# Altium schematic symbol library QUTMS_STM32Library.SchLib: 3 symbols
Pins are listed as number, name and electrical type; pins without a type are passive.

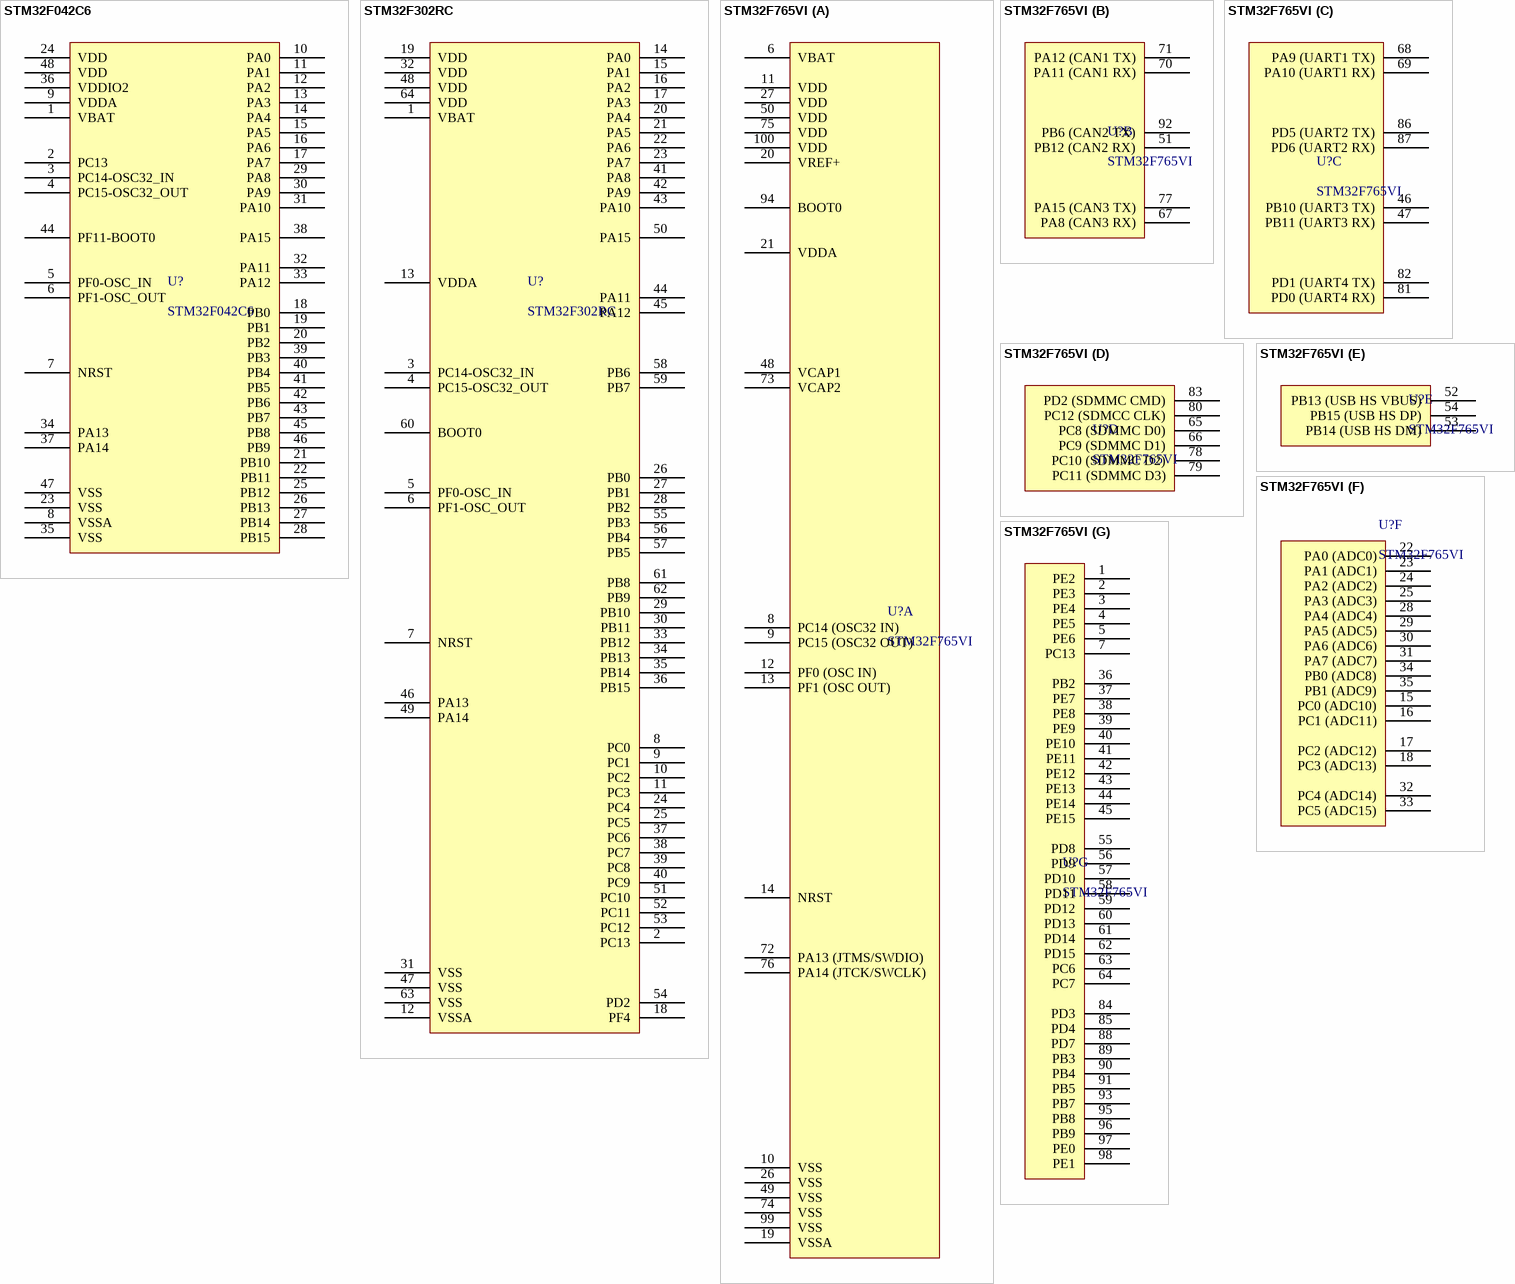
[diagram p0: symbols STM32F042C6 to STM32F765VI]

## STM32F042C6
designator U?
ARM® Cortex®-M0 STM32F0 Microcontroller IC 32-Bit 48MHz 32KB (32K x 8) FLASH 48-LQFP (7x7); ComponentLink1Description: Digikey; ComponentLink1URL: https://www.digikey.com.au/product-detail/en/stmicroelectronics/STM32F042C6T6TR/497-19319-1-ND/10063344; ComponentLink2Description: Datasheet; ComponentLink2URL: https://www.st.com/resource/en/datasheet/stm32f042k6.pdf
footprint STM32F042C6
pins: 1 VBAT, 2 PC13, 3 PC14-OSC32_IN, 4 PC15-OSC32_OUT, 5 PF0-OSC_IN, 6 PF1-OSC_OUT, 7 NRST, 8 VSSA, 9 VDDA, 10 PA0, 11 PA1, 12 PA2, 13 PA3, 14 PA4, 15 PA5, 16 PA6, 17 PA7, 18 PB0, 19 PB1, 20 PB2, 21 PB10, 22 PB11, 23 VSS, 24 VDD, 25 PB12, 26 PB13, 27 PB14, 28 PB15, 29 PA8, 30 PA9, 31 PA10, 32 PA11, 33 PA12, 34 PA13, 35 VSS, 36 VDDIO2, 37 PA14, 38 PA15, 39 PB3, 40 PB4, 41 PB5, 42 PB6, 43 PB7, 44 PF11-BOOT0, 45 PB8, 46 PB9, 47 VSS, 48 VDD

## STM32F302RC
designator U?
ARM® Cortex®-M4 STM32F3 Microcontroller IC 32-Bit 72MHz 256KB (256K x 8) FLASH 64-LQFP (10x10); ComponentLink1Description: Digikey; ComponentLink1URL: https://www.digikey.com.au/product-detail/en/stmicroelectronics/STM32F302RCT6TR/497-19000-1-ND/9974332; ComponentLink2Description: Datasheet; ComponentLink2URL: http://www.st.com/content/ccc/resource/technical/document/datasheet/67/73/21/b9/f2/b3/4d/f8/DM00094064.pdf/files/DM00094064.pdf/jcr:content/translations/en.DM00094064.pdf
footprint STM32F302RC
pins: 1 VBAT, 2 PC13, 3 PC14-OSC32_IN, 4 PC15-OSC32_OUT, 5 PF0-OSC_IN, 6 PF1-OSC_OUT, 7 NRST, 8 PC0, 9 PC1, 10 PC2, 11 PC3, 12 VSSA, 13 VDDA, 14 PA0, 15 PA1, 16 PA2, 17 PA3, 18 PF4, 19 VDD, 20 PA4, 21 PA5, 22 PA6, 23 PA7, 24 PC4, 25 PC5, 26 PB0, 27 PB1, 28 PB2, 29 PB10, 30 PB11, 31 VSS, 32 VDD, 33 PB12, 34 PB13, 35 PB14, 36 PB15, 37 PC6, 38 PC7, 39 PC8, 40 PC9, 41 PA8, 42 PA9, 43 PA10, 44 PA11, 45 PA12, 46 PA13, 47 VSS, 48 VDD, 49 PA14, 50 PA15, 51 PC10, 52 PC11, 53 PC12, 54 PD2, 55 PB3, 56 PB4, 57 PB5, 58 PB6, 59 PB7, 60 BOOT0, 61 PB8, 62 PB9, 63 VSS, 64 VDD

## STM32F765VI
designator U?
ARM® Cortex®-M7 STM32F7 Microcontroller IC 32-Bit 216MHz 2MB (2M x 8) FLASH 100-LQFP (14x14); ComponentLink1Description: Digikey; ComponentLink1URL: https://www.digikey.com/product-detail/en/stmicroelectronics/STM32F765VIT6/497-16631-ND/6137842; ComponentLink2Description: Datasheet
footprint LQFP-100
part A pins: 6 VBAT, 8 PC14 (OSC32 IN), 9 PC15 (OSC32 OUT), 10 VSS, 11 VDD, 12 PF0 (OSC IN), 13 PF1 (OSC OUT), 14 NRST, 19 VSSA, 20 VREF+, 21 VDDA, 26 VSS, 27 VDD, 48 VCAP1, 49 VSS, 50 VDD, 72 PA13 (JTMS/SWDIO), 73 VCAP2, 74 VSS, 75 VDD, 76 PA14 (JTCK/SWCLK), 94 BOOT0, 99 VSS, 100 VDD
part B pins: 51 PB12 (CAN2 RX), 67 PA8 (CAN3 RX), 70 PA11 (CAN1 RX), 71 PA12 (CAN1 TX), 77 PA15 (CAN3 TX), 92 PB6 (CAN2 TX)
part C pins: 46 PB10 (UART3 TX), 47 PB11 (UART3 RX), 68 PA9 (UART1 TX), 69 PA10 (UART1 RX), 81 PD0 (UART4 RX), 82 PD1 (UART4 TX), 86 PD5 (UART2 TX), 87 PD6 (UART2 RX)
part D pins: 65 PC8 (SDMMC D0), 66 PC9 (SDMMC D1), 78 PC10 (SDMMC D2), 79 PC11 (SDMMC D3), 80 PC12 (SDMCC CLK), 83 PD2 (SDMMC CMD)
part E pins: 52 PB13 (USB HS VBUS), 53 PB14 (USB HS DM), 54 PB15 (USB HS DP)
part F pins: 15 PC0 (ADC10), 16 PC1 (ADC11), 17 PC2 (ADC12), 18 PC3 (ADC13), 22 PA0 (ADC0), 23 PA1 (ADC1), 24 PA2 (ADC2), 25 PA3 (ADC3), 28 PA4 (ADC4), 29 PA5 (ADC5), 30 PA6 (ADC6), 31 PA7 (ADC7), 32 PC4 (ADC14), 33 PC5 (ADC15), 34 PB0 (ADC8), 35 PB1 (ADC9)
part G pins: 1 PE2, 2 PE3, 3 PE4, 4 PE5, 5 PE6, 7 PC13, 36 PB2, 37 PE7, 38 PE8, 39 PE9, 40 PE10, 41 PE11, 42 PE12, 43 PE13, 44 PE14, 45 PE15, 55 PD8, 56 PD9, 57 PD10, 58 PD11, 59 PD12, 60 PD13, 61 PD14, 62 PD15, 63 PC6, 64 PC7, 84 PD3, 85 PD4, 88 PD7, 89 PB3, 90 PB4, 91 PB5, 93 PB7, 95 PB8, 96 PB9, 97 PE0, 98 PE1